# Altium schematic symbol library micro32s3.SCHLIB: 1 symbol
Pins are listed as number, name and electrical type; pins without a type are passive.

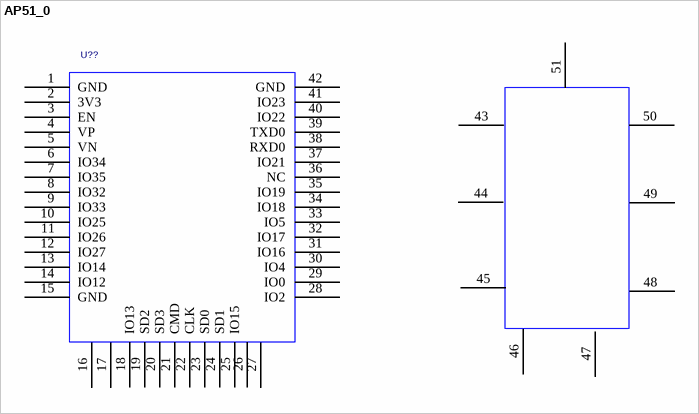
[diagram p0: symbol AP51_0]

## AP51_0
designator U??  (value not drawn)
PCB DECAL: 51PIN_1; Source_Path: F:\芯元科技\AP_ESP32\AP_ESP32B\AP_ESP32B.DSN; Value: esp32-pico-v3-02_MODULE
footprint 51PIN_1
pins: 1 GND (power), 2 3V3, 3 EN, 4 VP, 5 VN, 6 IO34, 7 IO35, 8 IO32, 9 IO33, 10 IO25, 11 IO26, 12 IO27, 13 IO14, 14 IO12, 15 GND (power), 16, 17, 18 IO13, 19 SD2, 20 SD3, 21 CMD, 22 CLK, 23 SD0, 24 SD1, 25 IO15, 26, 27, 28 IO2, 29 IO0, 30 IO4, 31 IO16, 32 IO17, 33 IO5, 34 IO18, 35 IO19, 36 NC, 37 IO21, 38 RXD0, 39 TXD0, 40 IO22, 41 IO23, 42 GND (power), 43, 44, 45, 46, 47, 48, 49, 50, 51